# Altium schematic symbol library RN73H2ATTD1043C50.SchLib: 1 symbol
Pins are listed as number, name and electrical type; pins without a type are passive.

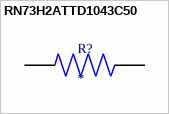
[diagram p0: symbol RN73H2ATTD1043C50]

## RN73H2ATTD1043C50
designator R?
RES 104K OHM 0.25% 1/8W 0805; MF: KOA Speer; MP: RN73H2ATTD1043C50; Check_prices: https://www.snapeda.com/parts/RN73H2ATTD1043C50/KOA+Speer/view-part/?ref=eda; Digi-Key_Part_Number: 2019-RN73H2ATTD1043C50TR-ND; Value: *; Package: 2012 KOA; SnapEDA_Link: https://www.snapeda.com/parts/RN73H2ATTD1043C50/KOA+Speer/view-part/?ref=snap; Purchase-URL: https://pricing.snapeda.com/search/part/RN73H2ATTD1043C50/?ref=eda
footprint RESC2012X60N
pins: 1, 2